# EAGLE library part ULN2003A (library Misaka-IC)
High-Voltage, High-Current Darlington Transistor Arrays 500-mA Rated Collector Current(Single Output) High-Voltage Outputs: 50V Output Clamp Diodes
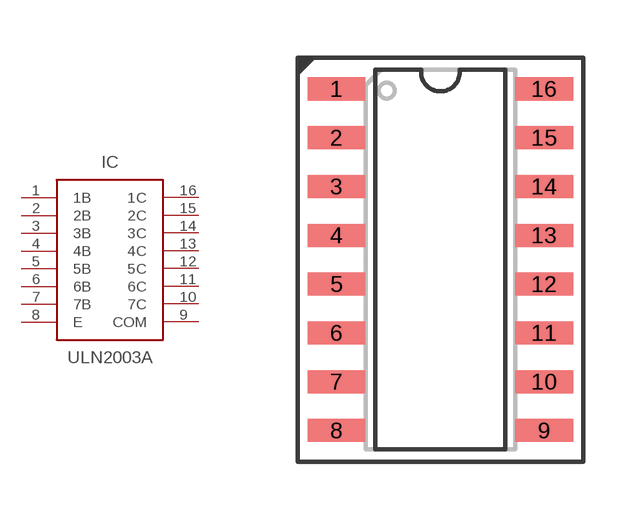
[diagram p12: symbol with the pads of SO-16; footprint SO-16]

Designator prefix IC

## ULN2003AD  [SO-16]
1  1B  in
2  2B  in
3  3B  in
4  4B  in
5  5B  in
6  6B  in
7  7B  in
8  E  pwr
9  COM  pwr
10  7C  out
11  6C  out
12  5C  out
13  4C  out
14  3C  out
15  2C  out
16  1C  out

## Footprint SO-16 (pad centres in mm)
smd 1.5 x 0.6: 1 -2.7,4.445; 2 -2.7,3.175; 3 -2.7,1.905; 4 -2.7,0.635; 5 -2.7,-0.635; 6 -2.7,-1.905; 7 -2.7,-3.175; 8 -2.7,-4.445; 9 2.7,-4.445; 10 2.7,-3.175; 11 2.7,-1.905; 12 2.7,-0.635; 13 2.7,0.635; 14 2.7,1.905; 15 2.7,3.175; 16 2.7,4.445